# Altium footprint library MyPcbLib.PcbLib: 66 footprints (part 5 of 5)
Each footprint in its own frame and in the unit in brackets; x right, y up, seen from the top. Pads: shape width x height; smd on the part's side, far side on the other; paste and mask are expansions set on the pad; w line width, h text height; cw(c..) or ccw(c..) is an arc to the next point about the centre after c.
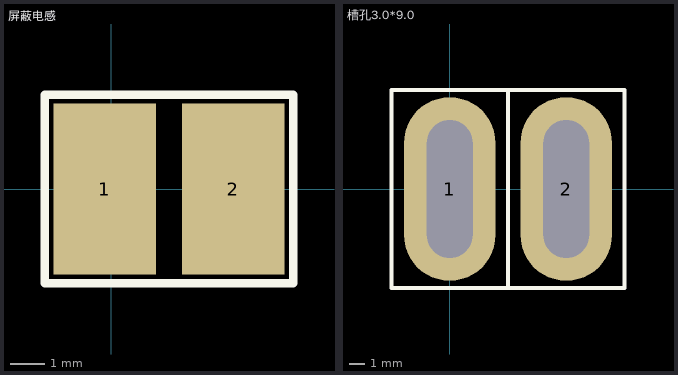
[diagram p4: the footprints below, top view; thin cyan lines are the x and y axes]

## 屏蔽电感 [mm]
pads (2):
  rect 3x5 smd: 1(-0.193,0) 2(3.557,0)
Top Overlay:
  lines w0.254: -1.943,-2.75 5.307,-2.75 5.307,2.75 -1.943,2.75 -1.943,-2.75
3D body: height 5, standoff -0.05, extent -2.169,-3.393 5.623,3.607

## 槽孔3.0*9.0 [mm]
pads (2):
  oval 6x12 hole 3 slot 9 at 90 deg: 1(0,0) 2(7.62,0)
Top Overlay:
  lines w0.254: 3.81,-6.477 3.81,6.477 ; -3.81,-6.477 -3.81,6.477 11.43,6.477 11.43,-6.477 -3.81,-6.477